# EAGLE library part REG710 (library IC & Transistor)
REG710 Charge Pump Regulator Created by: Wai Weng
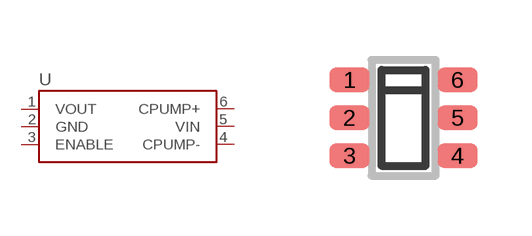
[diagram p34: symbol with the pads of SOT-23-6; footprint SOT-23-6]

Designator prefix U

## REG710NA-3.3 (DESC: SMD 3.3V REG710 Charge Pump Regulator; MF: Texas Instrument; MPN: REG710NA-3.3; VALUE: 3V3)  [SOT-23-6]
1  VOUT
2  GND
3  ENABLE
4  CPUMP-
5  VIN
6  CPUMP+

## Footprint SOT-23-6 (pad centres in mm)
Small Outline Transistor - 6 Pins (SOT-23-6). Size: 2.9 x 1.6mm Modified by: Wai Weng
smd 1 x 0.6: 1 -1.35,0.95; 2 -1.35,0; 3 -1.35,-0.95; 4 1.35,-0.95; 5 1.35,0; 6 1.35,0.95